# Altium schematic symbol library 缓冲器驱动器收发器.SchLib: 1 symbol
Pins are listed as number, name and electrical type; pins without a type are passive.

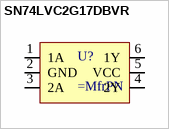
[diagram p0: symbol SN74LVC2G17DBVR]

## SN74LVC2G17DBVR
designator U?
pins: 1 1A, 2 GND, 3 2A, 4 2Y, 5 VCC, 6 1Y